# Altium footprint library footprint_hall_library.PcbLib: 36 footprints (part 2 of 3)
Each footprint in its own frame and in the unit in brackets; x right, y up, seen from the top. Pads: shape width x height; smd on the part's side, far side on the other; paste and mask are expansions set on the pad; w line width, h text height; cw(c..) or ccw(c..) is an arc to the next point about the centre after c.
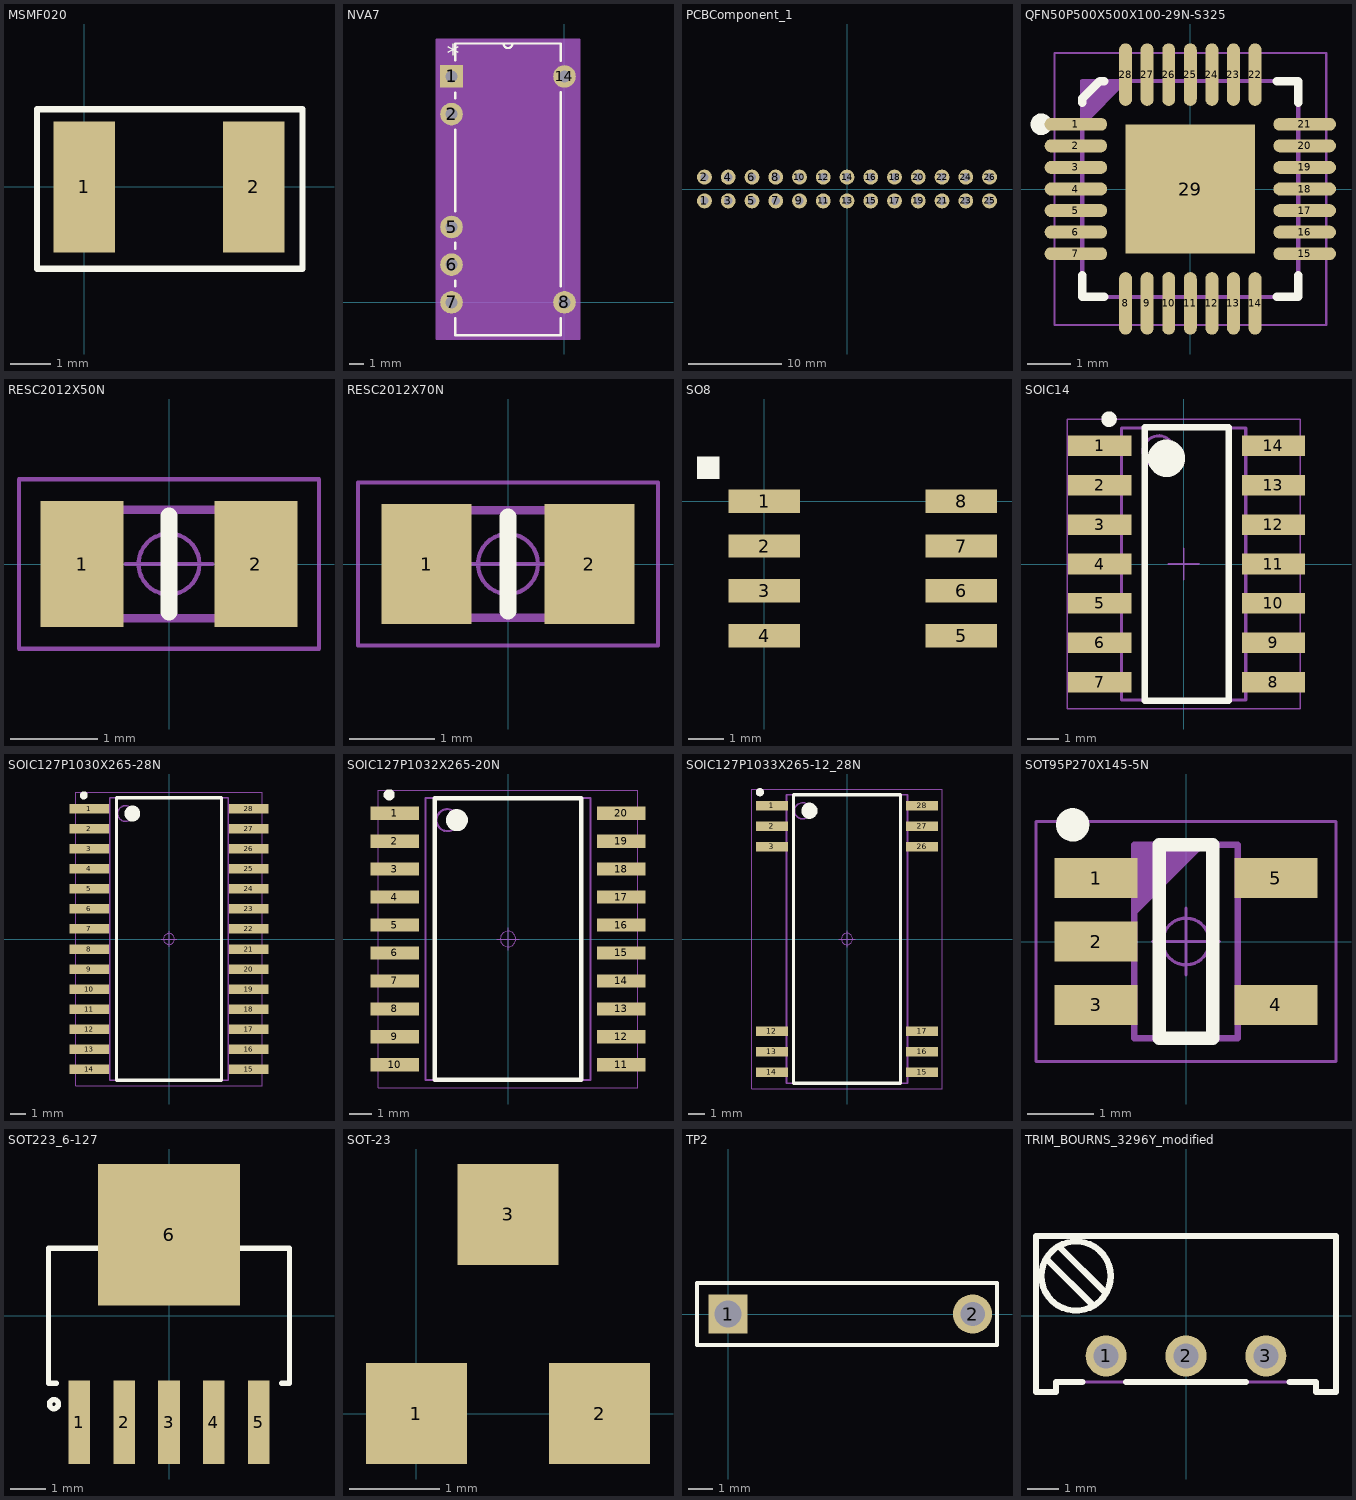
[diagram p1: the footprints below, top view; thin cyan lines are the x and y axes]

## MSMF020 [mm]
pads (2):
  rect 1.5x3.2 smd: 1(0,0) 2(4.14,0)
Top Overlay:
  lines w0.15: -1.16,-2 -1.16,1.9 5.34,1.9 5.34,-2 -1.16,-2
3D body "FUSR_BOURNS_MF-MSMF_STYLE2.stp": height 1.6, standoff 0, extent -0.295,-1.705 4.435,1.705

## NVA7 [mil]
pads (7):
  rect 60x60 hole 32: 1(-300,600)
  round 60 hole 32: 2(-300,500) 5(-300,200) 6(-300,100) 7(-300,0) 8(0,0) 14(0,600)
Top Overlay:
  lines w6: -290,-41.92 -290,-87.5 -10,-87.5 -10,-41.92 ; -290,41.92 -290,58.08 ; -290,141.92 -290,158.08 ; -290,241.92 -290,458.08 ; -290,541.92 -290,556.9 ; -290,643.1 -290,687.5 -10,687.5 -10,641.92 ; -162,687.5 ccw(c-150,687.5) -138,687.5 ; -10,41.92 -10,558.08
  text "*" at -312.5,635 h50
Mechanical 13:
  lines w0: -162,687.5 ccw(c-150,687.5) -138,687.5
  lines w1: -316,-16 -316,16 -290,16 -290,-16 -316,-16 ; -316,84 -316,116 -290,116 -290,84 -316,84 ; -316,184 -316,216 -290,216 -290,184 -316,184 ; -316,284 -316,316 -290,316 -290,284 -316,284 ; -316,384 -316,416 -290,416 -290,384 -316,384 ; -316,484 -316,516 -290,516 -290,484 -316,484 ; -316,584 -316,616 -290,616 -290,584 -316,584 ; -290,-87.5 -10,-87.5 -10,687.5 -290,687.5 -290,-87.5 ; -10,-16 -10,16 16,16 16,-16 -10,-16 ; -10,84 -10,116 16,116 16,84 -10,84 ; -10,184 -10,216 16,216 16,184 -10,184 ; -10,284 -10,316 16,316 16,284 -10,284 ; -10,384 -10,416 16,416 16,384 -10,384 ; -10,484 -10,516 16,516 16,484 -10,484 ; -10,584 -10,616 16,616 16,584 -10,584
  text "*" at -312.5,635 h50
Mechanical 15:
  region: 40,-97.5 -340,-97.5 -340,697.5 40,697.5
  lines w6: -340,-97.5 40,-97.5 40,697.5 -340,697.5 -340,-97.5
3D body "NVA7.step": height 215.12, standoff -100, extent -305,-87.48 15,687.48

## PCBComponent_1 [mm]
pads (26):
  round 1.6 hole 0.9: 1(-15.24,-1.27) 2(-15.24,1.27) 3(-12.7,-1.27) 4(-12.7,1.27) 5(-10.16,-1.27) 6(-10.16,1.27) 7(-7.62,-1.27) 8(-7.62,1.27) 9(-5.08,-1.27) 10(-5.08,1.27) 11(-2.54,-1.27) 12(-2.54,1.27) 13(0,-1.27) 14(0,1.27) 15(2.54,-1.27) 16(2.54,1.27) 17(5.08,-1.27) 18(5.08,1.27) 19(7.62,-1.27) 20(7.62,1.27) 21(10.16,-1.27) 22(10.16,1.27) 23(12.7,-1.27) 24(12.7,1.27) 25(15.24,-1.27) 26(15.24,1.27)

## QFN50P500X500X100-29N-S325 [mm] "QFN, 0.50mm Pitch, Square; 28 pin, 5.00mm L X 5.00mm W X 1.00mm H body (w/thermal tab 3.25 X 3.25mm),  IPC Medium Density"
height 1
pads (29):
  oval 1.45x0.3 smd: 1(-2.65,1.5) 2(-2.65,1) 3(-2.65,0.5) 4(-2.65,0) 5(-2.65,-0.5) 6(-2.65,-1) 7(-2.65,-1.5) 15(2.65,-1.5) 16(2.65,-1) 17(2.65,-0.5) 18(2.65,0) 19(2.65,0.5) 20(2.65,1) 21(2.65,1.5)
  oval 0.3x1.45 smd: 8(-1.5,-2.65) 9(-1,-2.65) 10(-0.5,-2.65) 11(0,-2.65) 12(0.5,-2.65) 13(1,-2.65) 14(1.5,-2.65) 22(1.5,2.65) 23(1,2.65) 24(0.5,2.65) 25(0,2.65) 26(-0.5,2.65) 27(-1,2.65) 28(-1.5,2.65)
  rect 3x3 smd: 29(0,0)
Top Overlay:
  circle w0.25: c-3.45,1.5 r0.125
  lines w0.2: -2.5,-2 -2.5,-2.5 -2,-2.5 ; -2.5,2 -2.5,2.1 -2.1,2.5 -2,2.5 ; 2,-2.5 2.5,-2.5 2.5,-2 ; 2,2.5 2.5,2.5 2.5,2
Mechanical 14:
  lines w0.1: -2.5,1.5 -1.5,2.5 ; -2.5,1.6 -1.6,2.5 ; -2.5,1.7 -1.7,2.5 ; -2.5,1.8 -1.8,2.5 ; -2.5,1.9 -1.9,2.5 ; -2.5,2 -2,2.5 ; -2.5,2.1 -2.1,2.5 ; -2.5,2.2 -2.2,2.5 ; -2.5,2.3 -2.3,2.5 ; -2.5,2.4 -2.4,2.5 ; -2.5,-2.5 -2.5,2.5 2.5,2.5 2.5,-2.5 -2.5,-2.5
Mechanical 15:
  circle w0.05: c0,0 r0.35
  lines w0.05: -0.5,0 0.5,0 ; 0,-0.5 0,0.5 ; -3.15,-3.15 -3.15,3.15 3.15,3.15 3.15,-3.15 -3.15,-3.15
3D body "QFN50P500X500X100-29N-S325.stp": height 1, standoff 0, extent -2.5,-2.5 2.5,2.5

## RESC2012X50N [mm] "Chip Resistor, EIA 0805, Metric 2012, Body 2.0x1.25mm, IPC Medium Density"
height 0.5
pads (2):
  rect 0.95x1.45 smd: 1(-1,0) 2(1,0)
Top Overlay:
  lines w0.2: 0,-0.55 0,0.55
Mechanical 14:
  lines w0.1: -1.025,-0.625 -1.025,0.625 1.025,0.625 1.025,-0.625 -1.025,-0.625
Mechanical 15:
  circle w0.05: c0,0 r0.35
  lines w0.05: -0.5,0 0.5,0 ; 0,-0.5 0,0.5 ; -1.725,-0.975 -1.725,0.975 1.725,0.975 1.725,-0.975 -1.725,-0.975
3D body "RESC2012X50N.stp": height 0.5, standoff 0, extent -1.1,-0.675 1.1,0.675

## RESC2012X70N [mm] "Chip Resistor, EIA 0805, Metric 2012, Body 2.0x1.25mm, IPC Medium Density"
height 0.7
pads (2):
  rect 1.05x1.4 smd: 1(-0.95,0) 2(0.95,0)
Top Overlay:
  lines w0.2: 0,-0.55 0,0.55
Mechanical 14:
  lines w0.1: -1,-0.625 1,-0.625 1,0.625 -1,0.625 -1,-0.625
Mechanical 15:
  circle w0.05: c0,0 r0.35
  lines w0.05: -0.5,0 0.5,0 ; 0,-0.5 0,0.5 ; -1.75,-0.95 1.75,-0.95 1.75,0.95 -1.75,0.95 -1.75,-0.95
3D body "RESC2012X70N.stp": height 0.7, standoff 0, extent -1.1,-0.675 1.1,0.675

## SO8 [mil] "SOIC 8, Pitch 1.27mm - Body 4x5mm, IPC Medium Density"
pads (8):
  rect 80x26 smd: 1(0,0) 2(0,-50) 3(0,-100) 4(0,-150) 5(220,-150) 6(220,-100) 7(220,-50) 8(220,0)
Top Overlay:
  region: -75,25 -50,25 -50,50 -75,50
3D body "SOIC127P600X175-8N.stp": height 68.9, standoff 0, extent -15.74,-173.42 228.36,23.43

## SOIC14 [mil] "SOIC 14, Pitch 1.27mm - Body 4x8.75mm, IPC Medium Density"
height 68.9
pads (14):
  rect 80x26 smd: 1(-106.3,150) 2(-106.3,100) 3(-106.3,50) 4(-106.3,0) 5(-106.3,-50) 6(-106.3,-100) 7(-106.3,-150) 8(113.7,-150) 9(113.7,-100) 10(113.7,-50) 11(113.7,0) 12(113.7,50) 13(113.7,100) 14(113.7,150)
Top Overlay:
  circle w23.62: c-21.65,133.86 r11.81
  circle w9.84: c-94.49,183.46 r4.92
  lines w7.87: -49.21,-173.23 -49.21,173.23 56.1,173.23 ; -48.23,-173.23 57.09,-173.23 57.09,173.23
Mechanical 14:
  circle w3.94: c-31.5,142.72 r19.68
  lines w3.94: -78.74,-172.05 78.74,-172.05 78.74,172.05 -78.74,172.05 -78.74,-172.05
Mechanical 15:
  lines w1.97: -19.69,0 19.68,0 ; 0,-19.68 0,19.68 ; -147.64,-183.07 147.64,-183.07 147.64,183.07 -147.64,183.07 -147.64,-183.07
3D body "SOIC127P600X175-14N.stp": height 68.9, standoff 0, extent -118.58,-172.24 125.51,172.25

## SOIC127P1030X265-28N [mm] "SOIC,1.27mm, Pitch;28 Pin, 7.50mm W X 17.90mm L X 2.65mm H body, IPC Medium Density"
height 2.65
pads (28):
  rect 2.5x0.6 smd: 1(-5.05,8.255) 2(-5.05,6.985) 3(-5.05,5.715) 4(-5.05,4.445) 5(-5.05,3.175) 6(-5.05,1.905) 7(-5.05,0.635) 8(-5.05,-0.635) 9(-5.05,-1.905) 10(-5.05,-3.175) 11(-5.05,-4.445) 12(-5.05,-5.715) 13(-5.05,-6.985) 14(-5.05,-8.255) 15(5.05,-8.255) 16(5.05,-6.985) 17(5.05,-5.715) 18(5.05,-4.445) 19(5.05,-3.175) 20(5.05,-1.905) 21(5.05,-0.635) 22(5.05,0.635) 23(5.05,1.905) 24(5.05,3.175) 25(5.05,4.445) 26(5.05,5.715) 27(5.05,6.985) 28(5.05,8.255)
Top Overlay:
  circle w0.5: c-2.325,7.95 r0.25
  circle w0.25: c-5.4,9.1 r0.125
  lines w0.2: -3.325,-8.95 3.325,-8.95 3.325,8.95 -3.325,8.95 -3.325,-8.95
Mechanical 14:
  circle w0.1: c-2.75,7.95 r0.5
  lines w0.1: -3.75,-8.95 3.75,-8.95 3.75,8.95 -3.75,8.95 -3.75,-8.95
Mechanical 15:
  circle w0.05: c0,0 r0.35
  lines w0.05: -0.5,0 0.5,0 ; 0,-0.5 0,0.5 ; -5.9,-9.3 5.9,-9.3 5.9,9.3 -5.9,9.3 -5.9,-9.3
3D body "SOIC127P1030X265-28N.stp": height 2.65, standoff 0, extent -5.185,-8.95 5.185,8.95

## SOIC127P1032X265-20N [mm] "SOIC, 1.27mm pitch; 20 pin, 7.50mm W X 12.80mm L X 2.65mm H body, IPC Medium Density"
height 2.65
pads (20):
  rect 2.2x0.6 smd: 1(-5.15,5.715) 2(-5.15,4.445) 3(-5.15,3.175) 4(-5.15,1.905) 5(-5.15,0.635) 6(-5.15,-0.635) 7(-5.15,-1.905) 8(-5.15,-3.175) 9(-5.15,-4.445) 10(-5.15,-5.715) 11(5.15,-5.715) 12(5.15,-4.445) 13(5.15,-3.175) 14(5.15,-1.905) 15(5.15,-0.635) 16(5.15,0.635) 17(5.15,1.905) 18(5.15,3.175) 19(5.15,4.445) 20(5.15,5.715)
Top Overlay:
  circle w0.5: c-2.325,5.4 r0.25
  circle w0.25: c-5.4,6.55 r0.125
  lines w0.2: -3.325,-6.4 3.325,-6.4 3.325,6.4 -3.325,6.4 -3.325,-6.4
Mechanical 14:
  circle w0.1: c-2.75,5.4 r0.5
  lines w0.1: -3.75,-6.4 3.75,-6.4 3.75,6.4 -3.75,6.4 -3.75,-6.4
Mechanical 15:
  circle w0.05: c0,0 r0.35
  lines w0.05: -0.5,0 0.5,0 ; 0,-0.5 0,0.5 ; -5.9,-6.75 5.9,-6.75 5.9,6.75 -5.9,6.75 -5.9,-6.75
3D body "SOIC127P1032X265-20N.stp": height 1.68, standoff 0, extent -5.18,-6.5 5.18,6.5

## SOIC127P1033X265-12_28N [mm] "SOIC, Pitch 1.27mm; 12 Pin of 28, 7.50mm W X 17.90mm L X 2.65mm H body, IPC Medium Density"
height 2.65
pads (12):
  rect 2x0.6 smd: 1(-4.65,8.255) 2(-4.65,6.985) 3(-4.65,5.715) 12(-4.65,-5.715) 13(-4.65,-6.985) 14(-4.65,-8.255) 15(4.65,-8.255) 16(4.65,-6.985) 17(4.65,-5.715) 26(4.65,5.715) 27(4.65,6.985) 28(4.65,8.255)
Top Overlay:
  circle w0.25: c-5.4,9.1 r0.125
  circle w0.5: c-2.325,7.95 r0.25
  lines w0.2: -3.325,-8.95 -3.325,8.95 3.325,8.95 3.325,-8.95 -3.325,-8.95
Mechanical 14:
  circle w0.1: c-2.75,7.95 r0.5
  lines w0.1: -3.75,-8.95 -3.75,8.95 3.75,8.95 3.75,-8.95 -3.75,-8.95
Mechanical 15:
  circle w0.05: c0,0 r0.35
  lines w0.05: -0.5,0 0.5,0 ; 0,-0.5 0,0.5 ; -5.9,-9.3 -5.9,9.3 5.9,9.3 5.9,-9.3 -5.9,-9.3
3D body "SOIC127P1033X265-12_28N.stp": height 1.68, standoff 0, extent -5.18,-9.05 5.18,9.05

## SOT95P270X145-5N [mm] "SOT, 0.95mm Pitch; 5 Pin,1.55mm W X 2.90mm L X 1.45mm H body, IPC Medium Density"
height 1.45
pads (5):
  rect 1.25x0.6 smd: 1(-1.35,0.95) 2(-1.35,0) 3(-1.35,-0.95) 4(1.35,-0.95) 5(1.35,0.95)
Top Overlay:
  circle w0.25: c-1.7,1.75 r0.125
  lines w0.2: -0.4,-1.45 0.4,-1.45 0.4,1.45 -0.4,1.45 -0.4,-1.45
Mechanical 14:
  lines w0.1: -0.775,0.45 0.225,1.45 ; -0.775,0.55 0.125,1.45 ; -0.775,0.65 0.025,1.45 ; -0.775,0.75 -0.075,1.45 ; -0.775,0.85 -0.175,1.45 ; -0.775,0.95 -0.275,1.45 ; -0.775,1.05 -0.375,1.45 ; -0.775,1.15 -0.475,1.45 ; -0.775,1.25 -0.575,1.45 ; -0.775,1.35 -0.675,1.45 ; -0.775,-1.45 0.775,-1.45 0.775,1.45 -0.775,1.45 -0.775,-1.45
Mechanical 15:
  circle w0.05: c0,0 r0.35
  lines w0.05: -0.5,0 0.5,0 ; 0,-0.5 0,0.5 ; -2.25,-1.8 2.25,-1.8 2.25,1.8 -2.25,1.8 -2.25,-1.8
3D body "SOT95P270X145-5N.stp": height 1.45, standoff 0.01, extent -1.351,-1.45 1.351,1.45

## SOT223_6-127 [mil] "1.27mm pitch 20pin = DCQ6-M(ti)"
pads (6):
  rect 24x93 smd paste+0 mask+0: 1(-100,-118.5) 2(-50,-118.5) 3(0,-118.5) 4(50,-118.5) 5(100,-118.5)
  rect 157.48x157.48 smd: 6(0,90)
Top Overlay:
  circle w6: c-127.95,-98.43 r5
  lines w6: -125.1,-75 -134,-75 -134,75 -75.1,75 ; 75.1,75 134,75 134,-75 125.1,-75
Top Paste:
  region: 62,72 62,165 -62,165 -62,72
Mechanical 13:
  lines w1: -110,-143 -90,-143 ; -60,-143 -40,-143 ; -10,-143 10,-143 ; 40,-143 60,-143 ; 90,-143 110,-143
3D body "DCQ6_TEX-M.step": height 71.1, standoff 0, extent -129.01,-142.99 129.02,143

## SOT-23 [mil]
pads (3):
  rect 44x44 smd: 1(0,0) 2(80,0) 3(40,87)
3D body "SOT95P240X110-3N.stp": height 43.31, standoff 0.08, extent -21.66,-3.93 96.45,94.5

## TP2 [mm]
height 9.2
pads (2):
  rect 1.6x1.6 hole 1.1: 1(0,0)
  round 1.6 hole 1: 2(10,0)
Top Overlay:
  lines w0.173: -1.27,-1.27 -1.27,1.27 11,1.27 11,-1.27 -1.27,-1.27

## TRIM_BOURNS_3296Y_modified [mm] "Trimming Potentiometer BOURNS 3296Y Series"
height 11.55
pads (3):
  round 1.3 hole 0.8: 1(-2.54,-1.27) 2(0,-1.27) 3(2.54,-1.27)
Top Overlay:
  circle w0.2: c-3.493,1.27 r1.1
  lines w0.2: -4.443,1.823 -2.939,0.319 ; -4.046,2.221 -2.542,0.717 ; -3.3,-2.095 -4.127,-2.095 -4.127,-2.413 -4.763,-2.413 -4.763,2.54 4.763,2.54 4.763,-2.413 4.127,-2.413 4.127,-2.095 3.3,-2.095 ; -1.9,-2.095 1.9,-2.095
Mechanical 14:
  circle w0.1: c-3.493,1.27 r1.1
  lines w0.1: -4.765,2.54 4.765,2.54 ; -4.763,2.54 -4.763,-2.413 -4.129,-2.413 ; -4.443,1.823 -2.939,0.319 ; -4.127,-2.413 -4.127,-2.095 4.127,-2.095 4.127,-2.413 4.763,-2.413 ; -4.046,2.221 -2.542,0.717 ; 4.763,-2.095 4.763,-2.412 ; 4.763,2.54 4.763,-2.413
3D body "TRIM_BOURNS_3296Y.stp": height 11.55, standoff -3.42, extent -4.765,-2.41 4.765,2.55